# Altium schematic symbol library SMPSProject.SchLib: 155 symbols (part 2 of 2)
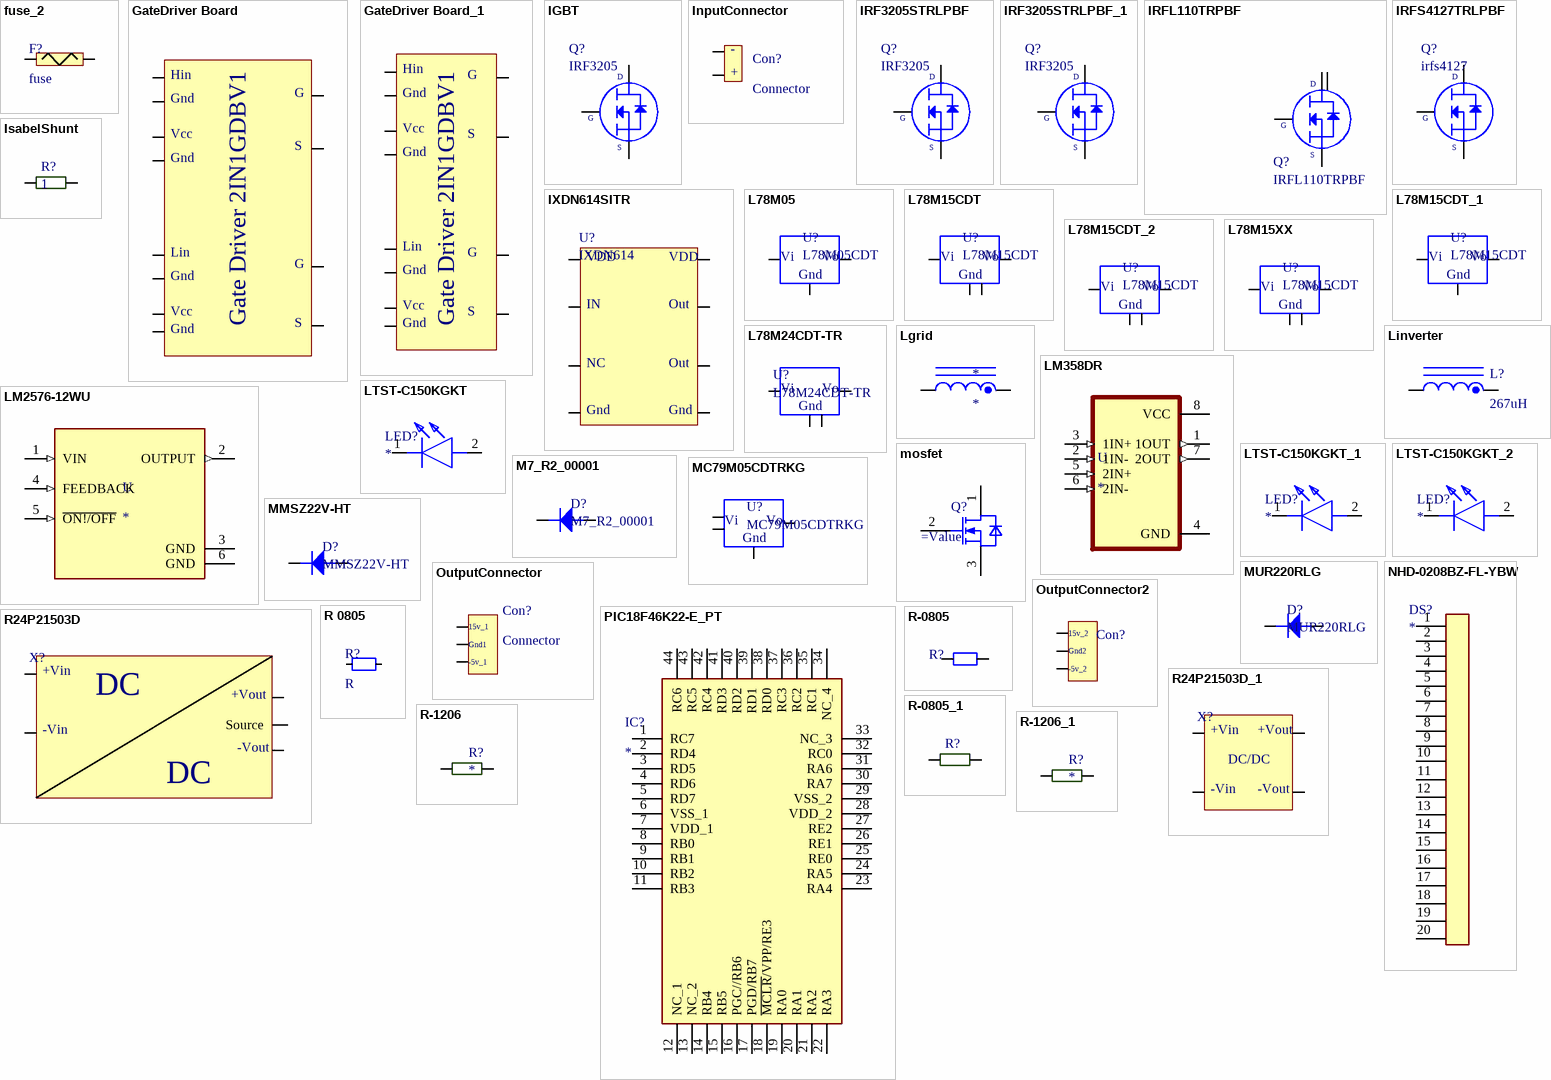
[diagram p4: symbols fuse_2 to R-1206_1]

## LM2576-12WU
designator U
Buck Switching Regulator IC Positive Fixed 12V 1 Output 3A TO-263-6, DÂ²Pak _5 Leads + Tab_, TO-263BA; MP: LM2576-12WU; MF: Microchip; Package: TO-263-5 Microchip; Value: *; SnapEDA_Link: https://www.snapeda.com/parts/LM2576-12WU/Microchip/view-part/2873733/?ref=snap; Price: None; Availability: Unavailable
footprint TO17P1435X465-6N
pins: 1 VIN (in), 2 OUTPUT (out), 3 GND (power), 4 FEEDBACK (in), 5 ~{ON!/OFF} (in), 6 GND (power)

## LTST-C150KGKT
designator LED?
LED; Manufacturer_Name: Lite-On; Manufacturer_Part_Number: LTST-C150KGKT; Datasheet Link: http://optoelectronics.liteon.com/upload/download/ds22-2000-072/ltst-c150kgkt.pdf; Height: 1.2mm; Mouser Part Number: 859-LTST-C150KGKT; Mouser Price/Stock: https://www.mouser.com/Search/Refine.aspx?Keyword=859-LTST-C150KGKT; RS Part Number: 6920871; RS Price/Stock: https://uk.rs-online.com/web/p/products/6920871
footprint L-1206
pins: 1 K, 2 A

## LTST-C150KGKT_1
designator LED?
LED; Manufacturer_Name: Lite-On; Manufacturer_Part_Number: LTST-C150KGKT; Datasheet Link: http://optoelectronics.liteon.com/upload/download/ds22-2000-072/ltst-c150kgkt.pdf; Height: 1.2mm; Mouser Part Number: 859-LTST-C150KGKT; Mouser Price/Stock: https://www.mouser.com/Search/Refine.aspx?Keyword=859-LTST-C150KGKT; RS Part Number: 6920871; RS Price/Stock: https://uk.rs-online.com/web/p/products/6920871
footprint led
pins: 1 K, 2 A

## LTST-C150KGKT_2
designator LED?
LED; Manufacturer_Name: Lite-On; Manufacturer_Part_Number: LTST-C150KGKT; Datasheet Link: http://optoelectronics.liteon.com/upload/download/ds22-2000-072/ltst-c150kgkt.pdf; Height: 1.2mm; Mouser Part Number: 859-LTST-C150KGKT; Mouser Price/Stock: https://www.mouser.com/Search/Refine.aspx?Keyword=859-LTST-C150KGKT; RS Part Number: 6920871; RS Price/Stock: https://uk.rs-online.com/web/p/products/6920871
footprint L-1206
footprint L-1206
pins: 1 K, 2 A

## M7_R2_00001
designator D?
ComponentLink1Description: Link; ComponentLink1URL: https://ozdisan.com/power-semiconductors/diodes-diode-modules-and-rectifiers/general-purpose-diodes/M7R200001
footprint DO-214AC
pins: a, k

## MC79M05CDTRKG
designator U?
ON SEMICONDUCTOR - MC79M05CDTRKG - NEGATIVE VOLTAGE REGULATOR, -5V, DPAK-3; Max Input Voltage: -35V; Min Input Voltage: -7V; Max Output Current: 500mA; Number of Outputs: 1; Dropout Voltage: 1.1V; Accuracy: 4%; Max Output Voltage: -5.2V; Power Supply Rejection Ratio (PSRR): 66dB; Output Type: Fixed; Supplier 1: Digi-Key; Manufacturer: ON Semiconductor; Manufacturer Part Number: MC79M05CDTRKG; RoHS: Yes; Stock 1: 5000; Pricing 1: 2500 = 0,18538, 5000 = 0,17342, 12500 = 0,16146, 25000 = 0,15309, 62500 = 0,14950 (USD); Mount: Surface Mount; Case/Package: DPAK; Number of Pins: 3; Contact Plating: Matte,Tin; Min Operating Temperature: 0°C; Max Operating Temperature: 125°C; Packaging: Tape and Reel; Output Voltage: -5V; Output Current: 500mA; Nominal Output Voltage: -5V; Package Quantity: 1; Number of Regulators: 1; Polarity: Negative; Min Output Voltage: -5V; Output Voltage Accuracy: 4%; Length: 6.73mm; Height: 2.38mm; Width: 6.22mm; Radiation Hardening: No; REACH SVHC: No SVHC; Lead Free: Lead Free; Halogen Free: Halogen Free; ComponentLink1URL: http://www.farnell.com/datasheets/2236912.pdf?src-supplier=Newark; ComponentLink1Description: http://www.farnell.com/datasheets/2236912.pdf?src-supplier=Newark; ComponentLink2URL: http://www.onsemi.com/pub/Collateral/MC79M00-D.PDF?src-supplier=Digi-Key; ComponentLink2Description: http://www.onsemi.com/pub/Collateral/MC79M00-D.PDF?src-supplier=Digi-Key; ComponentLink3URL: http://www.farnell.com/datasheets/1747960.pdf?src-supplier=Element14; ComponentLink3Description: http://www.farnell.com/datasheets/1747960.pdf?src-supplier=Element14; ComponentLink4URL: http://www.onsemi.com/pub/Collateral/MC79M00-D.PDF?src-supplier=Avnet+Europe; ComponentLink4Description: http://www.onsemi.com/pub/Collateral/MC79M00-D.PDF?src-supplier=Avnet+Europe; Supplier Part Number 1: MC79M05CDTRKGOSTR-ND
footprint sot89
pins: 1, 2, 2, 3
text: Vi; Vo; Gnd

## MMSZ22V-HT
designator D?
ComponentLink1Description: Link; ComponentLink1URL: https://ozdisan.com/power-semiconductors/diodes-diode-modules-and-rectifiers/zener-diodes/MMSZ22V-HT
footprint SOD123
footprint SOD123
pins: a, k

## mosfet
designator Q?
Insulated-Gate Field-Effect Transistor (IGFET), N-Channel, Enhancement, Body Diode, Pin 1 Drain, 2 Gate, 3 Source, 3 Pins; Symbol Type: Insulated-Gate Field-Effect Transistor (IGFET), N-Channel, Enhancement, Body Diode, Pin 1 Drain, 2 Gate, 3 Source, 3 Pins
pins: 1 DRAIN, 2 GATE, 3 SOURCE

## MUR220RLG
designator D?
DIODE GEN PURP 200V 2A AXIAL; Manufacturer: ON Semiconductor; Peak Reverse Current: 2uA; Max Surge Current: 35A; Recovery Time: 35ns; Forward Voltage: 950mV; Element Configuration: Single; Polarity: Standard; Supplier 1: Digi-Key; Manufacturer Part Number: MUR220RLG; RoHS: Yes; Stock 1: 4950; Pricing 1: 1 = 0,37000, 10 = 0,30200, 100 = 0,20590, 500 = 0,15446, 1000 = 0,11584 (USD); Case/Package: Axial; Number of Pins: 2; Contact Plating: Matte,Tin; Min Operating Temperature: -65°C; Max Operating Temperature: 175°C; Package Quantity: 5000; Packaging: Tape and Reel; Average Rectified Current: 2A; Reverse Recovery Time: 35ns; Max Repetitive Reverse Voltage (Vrrm): 200V; Peak Non-Repetitive Surge Current: 35A; Forward Current: 2A; Max Forward Surge Current (Ifsm): 35A; Voltage Rating (DC): 200V; Current Rating: 2A; Output Current: 2A; Max Reverse Voltage (DC): 200V; Reverse Voltage: 200V; Radiation Hardening: No; REACH SVHC: No SVHC; Lead Free: Lead Free; Halogen Free: Halogen Free; ComponentLink1URL: http://www.onsemi.com/pub/Collateral/MUR220-D.PDF?src-supplier=Avnet; ComponentLink1Description: http://www.onsemi.com/pub/Collateral/MUR220-D.PDF?src-supplier=Avnet; ComponentLink2URL: http://www.onsemi.com/pub/Collateral/MUR220-D.PDF?src-supplier=Digi-Key; ComponentLink2Description: http://www.onsemi.com/pub/Collateral/MUR220-D.PDF?src-supplier=Digi-Key; ComponentLink3URL: http://www.onsemi.com/pub/Collateral/MUR220-D.PDF?src-supplier=Avnet+Europe; ComponentLink3Description: http://www.onsemi.com/pub/Collateral/MUR220-D.PDF?src-supplier=Avnet+Europe; Supplier Part Number 1: MUR220RLGOSCT-ND
footprint DO41 1N4001 MUR220
pins: A, K

## NHD-0208BZ-FL-YBW
designator DS?
Display; Manufacturer_Name: Newhaven Display; Manufacturer_Part_Number: NHD-0208BZ-FL-YBW; Allied_Number: 70518052; Datasheet Link: https://www.newhavendisplay.com/specs/NHD-0208BZ-FL-YBW.pdf; Height: 13.5mm; Mouser Part Number: 763-0208BZ-FL-YBW; Mouser Price/Stock: https://www.mouser.com/Search/Refine.aspx?Keyword=763-0208BZ-FL-YBW; Allied Price/Stock: https://www.alliedelec.com/newhavendisplayinternational-nhd-0208bz-fl-ybw/70518052/
footprint idc20
pins: 1 VSS, 2 VDD, 3 V0, 4 RS, 5 R/W, 6 E, 7 DB0, 8 DB1, 9 DB2, 10 DB3, 11 DB4, 12 DB5, 13 DB6, 14 DB7, 15, 16, 17, 18, 19, 20

## OutputConnector
designator Con?, comment Connector
footprint Output Connector
footprint Output Connector
pins: 1, 2, 3
text: 15v_1; Gnd1; -5v_1

## OutputConnector2
designator Con?  (value not drawn)
footprint Output Connector
pins: 1, 2, 3
text: 15v_2; Gnd2; -5v_2

## PIC18F46K22-E_PT
designator IC?
Integrated Circuit; Manufacturer_Name: Microchip; Manufacturer_Part_Number: PIC18F46K22-E/PT; Datasheet Link: https://componentsearchengine.com/Datasheets/1/PIC18F46K22-E_PT.pdf; Height: 1.2mm; Mouser Part Number: 579-PIC18F46K22EPT; Mouser Price/Stock: https://www.mouser.co.uk/ProductDetail/Microchip-Technology/PIC18F46K22-E-PT/?qs=RXaOwepKlZ1VZ48%252B%252BLjZBQ%3D%3D; Arrow Part Number: PIC18F46K22-E/PT; Arrow Price/Stock: https://www.arrow.com/en/products/pic18f46k22-ept/microchip-technology
footprint QFP80P1200X1200X120-44N
pins: 1 RC7, 2 RD4, 3 RD5, 4 RD6, 5 RD7, 6 VSS_1, 7 VDD_1, 8 RB0, 9 RB1, 10 RB2, 11 RB3, 12 NC_1, 13 NC_2, 14 RB4, 15 RB5, 16 PGC//RB6, 17 PGD/RB7, 18 ~{MCLR}/VPP/RE3, 19 RA0, 20 RA1, 21 RA2, 22 RA3, 23 RA4, 24 RA5, 25 RE0, 26 RE1, 27 RE2, 28 VDD_2, 29 VSS_2, 30 RA7, 31 RA6, 32 RC0, 33 NC_3, 34 NC_4, 35 RC1, 36 RC2, 37 RC3, 38 RD0, 39 RD1, 40 RD2, 41 RD3, 42 RC4, 43 RC5, 44 RC6

## R24P21503D
designator X?
Manufacturer: Recom; Manufacturer Part Number: R24P21503D; Max Output Voltage: 15V; Supplier 1: Digi-Key; RoHS: No; Stock 1: 378; Pricing 1: 1 = 8.78000, 5 = 8.71200, 10 = 8.64500, 25 = 8.51200, 50 = 8.24600, 100 = 7.44800, 250 = 7.31500, 500 = 7.18200 (USD); Weight: 4.3g; Length: 19.5mm; Height: 12.5mm; Width: 9.8mm; Supplier Part Number 1: 945-3071-5-ND
footprint SIP7 - duplicate
pins: 1, 2, 5, 6 Source, 7
text: +Vin; DC; +Vout; -Vin; -Vout

## R24P21503D_1
designator X?
Manufacturer: Recom; Manufacturer Part Number: R24P21503D; Max Output Voltage: 15V; Supplier 1: Digi-Key; RoHS: No; Stock 1: 378; Pricing 1: 1 = 8.78000, 5 = 8.71200, 10 = 8.64500, 25 = 8.51200, 50 = 8.24600, 100 = 7.44800, 250 = 7.31500, 500 = 7.18200 (USD); Weight: 4.3g; Length: 19.5mm; Height: 12.5mm; Width: 9.8mm; Supplier Part Number 1: 945-3071-5-ND
footprint SIP7
pins: 1, 2, 5, 7
text: +Vin; +Vout; DC/DC; -Vin; -Vout

## R 0805
designator R?, comment R
footprint R-0805R (resistor 0805 reflow soldering)
pins: 1, 2

## R-0805
designator R?  (value not drawn)
footprint R-0805W (resistor 0805 wave soldering)
pins: 1, 2

## R-0805_1
designator R?
footprint R-0805
footprint R-0805
pins: 1, 2

## R-1206
designator R?
Res1206
footprint R-1206
pins: 1, 2

## R-1206_1
designator R?
Res1206
footprint R-1206
pins: 1, 2

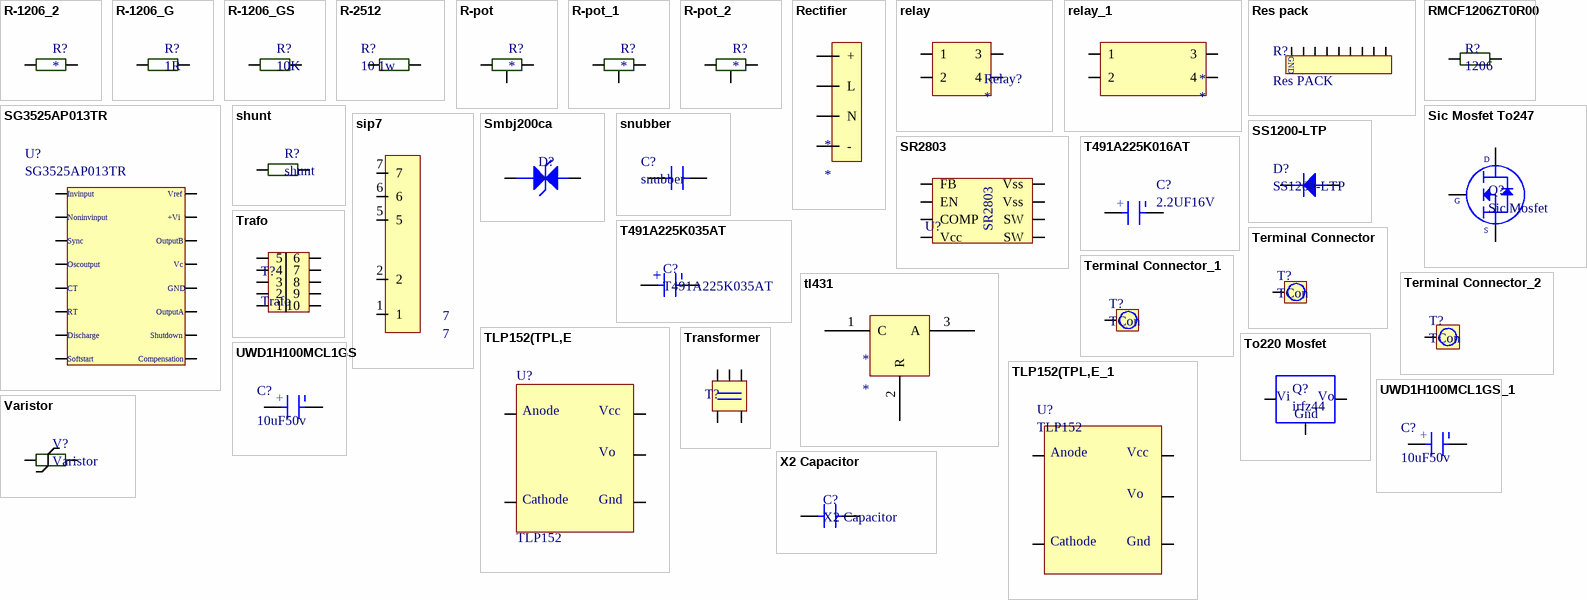
[diagram p3: symbols R-1206_2 to X2 Capacitor]

## R-1206_2
designator R?
Res1206
footprint R-1206
pins: 1, 2

## R-1206_G
designator R?, comment 1R
1206S4F100KT5E; ComponentLink1Description: https://www.ozdisan.com/pasif-komponentler/direncler/smt-smd-direncler/1206S4F100KT5E; ComponentLink1URL: https://www.ozdisan.com/pasif-komponentler/direncler/smt-smd-direncler/1206S4F100KT5E
footprint R-1206
pins: 1, 2

## R-1206_GS
designator R?, comment 10K
1206S4F1002T5E; ComponentLink1Description: link; ComponentLink1URL: https://www.ozdisan.com/pasif-komponentler/direncler/smt-smd-direncler/1206S4F1002T5E
footprint R-1206
pins: 1, 2

## R-2512
designator R?, comment 10 1w
footprint R-2512
footprint R-2512
pins: 1, 2

## R-pot
designator R?
Res1206
footprint pot
pins: 1, 2, 3

## R-pot_1
designator R?
Res1206
footprint pot
pins: 1, 2, 3

## R-pot_2
designator R?
Res1206
footprint pot
pins: 1, 2, 3

## Rectifier
designator *
footprint Rectifier
pins: 1 +, 2 L, 3 N, 4 -

## relay
designator Relay?
footprint Relay
pins: 1, 2, 3, 4

## relay_1
designator *
footprint Relay
pins: 1, 2, 3, 4

## Res pack
designator R?, comment Res PACK
footprint resistor Pack
pins: 1 GND, 2, 3, 4, 5, 6, 7, 8, 9

## RMCF1206ZT0R00
designator R?, comment 1206
RES 0 OHM JUMPER 1/4W 1206; Manufacturer: Stackpole Electronics; Manufacturer Part Number: RMCF1206ZT0R00; Resistance: 0mR; Power Rating: 250mW; Current Rating: 2A; Working Voltage: 200V; Supplier 1: Digi-Key; RoHS: Yes; Stock 1: 1700000; Pricing 1: 5000 = 0,00355, 10000 = 0,00309, 25000 = 0,00271, 50000 = 0,00249, 125000 = 0,00244 (USD); Mount: Surface Mount; Case/Package: 1206; Case Code (Metric): 3216; Case Code (Imperial): 1206; Contact Plating: Matte,Tin; Min Operating Temperature: -55°C; Max Operating Temperature: 155°C; Packaging: Tape and Reel; Composition: Thick Film; Number of Terminations: 2; Military Standard: Not; Max Power Dissipation: 250mW; Features: Automotive AEC-Q200; Length: 0.126inch; Height: 0.028inch; Width: 0.063inch; Depth: 1.6mm; Radiation Hardening: No; Lead Free: Lead Free; Supplier Part Number 1: RMCF1206ZT0R00TR-ND
footprint RES1206 (Chip Resistor, 2-Leads, Body 3,15x1,58mm, IPC Medium Density)
pins: 1, 2

## SG3525AP013TR
designator U?
IC REG CTRLR BCK/PSH-PULL 16SOIC; Manufacturer: STMicroelectronics; Max Supply Voltage: 35V; Output Current: 400A; Rise Time: 100ns; Number of Outputs: 2; Switching Frequency: 400kHz; Output Voltage: 5.2V; Max Frequency: 500kHz; Duty Cycle: 49%; Fall Time: 50ns; Operating Supply Current: 14mA; Max Supply Current: 20mA; Supplier 1: Digi-Key; RoHS: Yes; Stock 1: 5712; Pricing 1: 1 = 1,58000, 10 = 1,41600, 100 = 1,10400, 500 = 0,91196, 1000 = 0,71997 (USD); Mount: Surface Mount; Number of Pins: 16; Weight: 0.007079oz; Min Operating Temperature: 0°C; Max Operating Temperature: 70°C; Packaging: Tape and Reel; Package Quantity: 1; Max Duty Cycle: 49%; Radiation Hardening: No; Lead Free: Lead Free; ComponentLink1URL: http://www.st.com/content/ccc/resource/technical/document/datasheet/c0/12/98/4a/3b/1a/4b/8b/CD00000958.pdf/files/CD00000958.pdf/jcr:content/translations/en.CD00000958.pdf?src-supplier=Digi-Key; ComponentLink1Description: http://www.st.com/content/ccc/resource/technical/document/datasheet/c0/12/98/4a/3b/1a/4b/8b/CD00000958.pdf/files/CD00000958.pdf/jcr:content/translations/en.CD00000958.pdf?src-supplier=Digi-Key; ComponentLink2URL: https://www.verical.com/server-webapp/html/getDatasheet?partID=376579&src-supplier=Verical; ComponentLink2Description: https://www.verical.com/server-webapp/html/getDatasheet?partID=376579&src-supplier=Verical; ComponentLink3URL: http://www.produktinfo.conrad.com/datenblaetter/1100000-1199999/001185611-da-01-en-IC_REG_CTRLR_P_SG3525AP013TR_SOIC_16_STM.pdf?src-supplier=Conrad; ComponentLink3Description: http://www.produktinfo.conrad.com/datenblaetter/1100000-1199999/001185611-da-01-en-IC_REG_CTRLR_P_SG3525AP013TR_SOIC_16_STM.pdf?src-supplier=Conrad; Case/Package: SOIC; Supplier Part Number 1: 497-6479-1-ND; Manufacturer Part Number: SG3525AP013TR
footprint SOIC16N
pins: 1, 2, 3, 4, 5, 6, 7, 8, 9, 10, 11, 12, 13, 14, 15, 16
text: Invinput; Vref; Noninvinput; +Vi; Sync; OutputB; Oscoutput; Vc; CT; GND; RT; OutputA; Discharge; Shutdown; Softstart; Compensation

## shunt
designator R?
Res1206
footprint shunt
pins: 1, 2

## Sic Mosfet To247
designator Q?, comment Sic Mosfet
SiC Mosfet To247
footprint IFX-PG-TO247-3-41 (TO247-Diode; 3 pin, 5.44 mm pitch, 15.90 mm L X 5.00 mm W X 26.00 mm H body)
pins: 1, 2, 3
text: D; G; S

## sip7
designator 7, comment 7
footprint SIP7
pins: 1, 2, 5, 6, 7

## Smbj200ca
designator D?
footprint DO214AA
pins: 1, 2

## snubber
designator C?
Manufacturer: Nichicon; Manufacturer Part Number: LKS1J472MESZ; Voltage Rating: 63V; Tolerance: 20%; Ripple Current: 3A; Life (Hours): 1000Hour; Supplier 1: Mouser; RoHS: Yes; Mount: Through Hole; Case/Package: Radial; Min Operating Temperature: -40°C; Max Operating Temperature: 85°C; Package Quantity: 250; Packaging: Bulk; Voltage Rating (DC): 63V; Termination: Snap in; Diameter: 22mm; Length: 45mm; Lead Pitch: 0.394inch; Height - Seated (Max): 1.772inch; Supplier Part Number 1: 647-LKS1J472MESZ
footprint snubber
pins: 1, 2

## SR2803
designator U?  (value not drawn)
footprint sr2803
pins: 1 FB, 2 EN, 3 COMP, 4 Vcc, 5 SW, 6 SW, 7 Vss, 8 Vss

## SS1200-LTP
designator D?
DIODE SCHOTTKY 200V 1A DO214AC; Manufacturer: MCC; Max Surge Current: 30A; Forward Voltage: 920mV; Peak Reverse Current: 1mA; Element Configuration: Single; Supplier 1: Digi-Key; Manufacturer Part Number: SS1200-LTP; RoHS: Yes; Stock 1: 10000; Pricing 1: 5000 = 0,09300, 10000 = 0,08700, 25000 = 0,08400 (USD); Mount: Surface Mount; Min Operating Temperature: -55°C; Max Operating Temperature: 150°C; Packaging: Tape and Reel; Package Quantity: 1; Max Reverse Leakage Current: 1mA; Max Repetitive Reverse Voltage (Vrrm): 200V; Forward Current: 1A; Max Forward Surge Current (Ifsm): 30A; Average Rectified Current: 1A; Max Reverse Voltage (DC): 200V; Lead Free: Lead Free; ComponentLink1URL: https://datasheet.ciiva.com/913/ss1150-l-ss1200-ldo-214ac-913194.pdf?src-supplier=Digi-Key; ComponentLink1Description: https://datasheet.ciiva.com/913/ss1150-l-ss1200-ldo-214ac-913194.pdf?src-supplier=Digi-Key; ComponentLink2URL: https://datasheet.ciiva.com/15404/ss1150-l-ss1200-ldo-214ac-272760-15404740.pdf?src-supplier=Mouser; ComponentLink2Description: https://datasheet.ciiva.com/15404/ss1150-l-ss1200-ldo-214ac-272760-15404740.pdf?src-supplier=Mouser; ComponentLink3URL: https://datasheet.ciiva.com/913/ss1150-l-ss1200-ldo-214ac-913195.pdf?src-supplier=Digi-Key; ComponentLink3Description: https://datasheet.ciiva.com/913/ss1150-l-ss1200-ldo-214ac-913195.pdf?src-supplier=Digi-Key; ComponentLink4URL: https://datasheet.ciiva.com/913/ss1150-l-ss1200-ldo-214ac-913196.pdf?src-supplier=Digi-Key; ComponentLink4Description: https://datasheet.ciiva.com/913/ss1150-l-ss1200-ldo-214ac-913196.pdf?src-supplier=Digi-Key; ComponentLink5URL: https://datasheet.ciiva.com/17447/ss1150-l-ss1200-ldo-214ac-17447695.pdf?src-supplier=Future+Electronics; ComponentLink5Description: https://datasheet.ciiva.com/17447/ss1150-l-ss1200-ldo-214ac-17447695.pdf?src-supplier=Future+Electronics; Supplier Part Number 1: SS1200-LTPMSTR-ND
footprint DO-214AC
pins: a, k

## T491A225K016AT
designator C?, comment 2.2UF16V
CAP TANT 2.2UF 10% 16V 1206; Manufacturer: KEMET; Manufacturer Part Number: T491A225K016AT; Dielectric Material: Tantalum; ESR (Equivalent Series Resistance): 6R; Leakage Current: 500nA; Polarity: Polar; Dissipation Factor: 6%; Life (Hours): 2000Hour; Supplier 1: Digi-Key; RoHS: Yes; Stock 1: 84000; Pricing 1: 2000 = 0,09450, 4000 = 0,08925, 10000 = 0,08400, 14000 = 0,08138, 50000 = 0,07350, 100000 = 0,07140 (USD); Mount: PCB,Surface Mount; Case/Package: 1206; Number of Pins: 2; Case Code (Metric): 3216; Case Code (Imperial): 1206; Min Operating Temperature: -55°C; Max Operating Temperature: 125°C; Capacitance: 2.2uF; Tolerance: 10%; Voltage Rating: 16V; Packaging: Tape and Reel; Package Quantity: 1; Voltage Rating (DC): 16V; Termination: SMD/SMT; Voltage: 16V; Features: General Purpose; Length: 3.2mm; Height: 1.6mm; Width: 1.6mm; Height - Seated (Max): 0.071inch; Depth: 1.6mm; Radiation Hardening: No; REACH SVHC: No SVHC; Lead Free: Lead Free; ComponentLink1URL: http://www.farnell.com/datasheets/1854511.pdf?src-supplier=Element14; ComponentLink1Description: http://www.farnell.com/datasheets/1854511.pdf?src-supplier=Element14; ComponentLink2URL: http://www.jameco.com/Jameco/Products/ProdDS/1573329.pdf?src-supplier=Jameco; ComponentLink2Description: http://www.jameco.com/Jameco/Products/ProdDS/1573329.pdf?src-supplier=Jameco; ComponentLink3URL: https://api.kemet.com/component-edge/download/datasheet/T491A225K016AT.pdf?src-supplier=Digi-Key; ComponentLink3Description: https://api.kemet.com/component-edge/download/datasheet/T491A225K016AT.pdf?src-supplier=Digi-Key; ComponentLink4URL: http://www.farnell.com/datasheets/1854511.pdf?src-supplier=Farnell; ComponentLink4Description: http://www.farnell.com/datasheets/1854511.pdf?src-supplier=Farnell; ComponentLink5URL: http://uk.rs-online.com/webdocs/1515/0900766b81515567.pdf?src-supplier=RSComponents; ComponentLink5Description: http://uk.rs-online.com/webdocs/1515/0900766b81515567.pdf?src-supplier=RSComponents; ComponentLink6URL: https://www.verical.com/server-webapp/html/getDatasheet?partID=120946&src-supplier=Verical; ComponentLink6Description: https://www.verical.com/server-webapp/html/getDatasheet?partID=120946&src-supplier=Verical; ComponentLink7URL: https://search.kemet.com/component-edge/download/datasheet/T491A225K016AT.pdf?src-supplier=Digi-Key; ComponentLink7Description: https://search.kemet.com/component-edge/download/datasheet/T491A225K016AT.pdf?src-supplier=Digi-Key; ComponentLink8URL: http://www.farnell.com/datasheets/1446014.pdf?src-supplier=Element14; ComponentLink8Description: http://www.farnell.com/datasheets/1446014.pdf?src-supplier=Element14; ComponentLink9URL: http://www.mouser.com/ds/2/212/KEM_T2005_T491-1093550.pdf?src-supplier=Mouser; ComponentLink9Description: http://www.mouser.com/ds/2/212/KEM_T2005_T491-1093550.pdf?src-supplier=Mouser; Supplier Part Number 1: 399-3691-2-ND
footprint Tantal1206
pins: 1, 2
text: +

## T491A225K035AT
designator C?
CAP TANT 2.2UF 35V 10% 1206; Manufacturer: KEMET; ESR (Equivalent Series Resistance): 4.5R; Polarity: Polar; Life (Hours): 2000Hour; Dissipation Factor: 6%; Supplier 1: Digi-Key; Manufacturer Part Number: T491A225K035AT; RoHS: Yes; Stock 1: 1476; Pricing 1: 1 = 0,62000, 10 = 0,44100, 100 = 0,29030, 500 = 0,21506, 1000 = 0,18280 (USD); Mount: Surface Mount; Case/Package: Molded; Case Code (Metric): 3216; Case Code (Imperial): 1206; Min Operating Temperature: -55°C; Max Operating Temperature: 125°C; Capacitance: 2.2uF; Tolerance: 10%; Package Quantity: 2000; Packaging: Tape and Reel; Voltage Rating: 35V; Voltage Rating (DC): 35V; Features: General Purpose; Length: 3.2mm; Height: 1.6mm; Width: 0.063inch; Height - Seated (Max): 0.071inch; Depth: 1.6mm; Radiation Hardening: No; REACH SVHC: No SVHC; Lead Free: Lead Free; ComponentLink1URL: http://www.kemet.com/Lists/ProductCatalog/Attachments/254/KEM_T2005_T491.pdf?src-supplier=Digi-Key; ComponentLink1Description: http://www.kemet.com/Lists/ProductCatalog/Attachments/254/KEM_T2005_T491.pdf?src-supplier=Digi-Key; Supplier Part Number 1: 399-10447-6-ND
footprint Tantal1206
pins: 1, 2
text: +

## Terminal Connector
designator T?, comment TCon
ComponentLink1Description: https://www.ozdisan.com/konnektor-baglanti-elemanlari/terminal-konnektorler/vida-tipi-konnektorler/K36-00AH; ComponentLink1URL: https://www.ozdisan.com/konnektor-baglanti-elemanlari/terminal-konnektorler/vida-tipi-konnektorler/K36-00AH
footprint tCon
footprint tCon
pins: 1

## Terminal Connector_1
designator T?, comment TCon
ComponentLink1Description: https://www.ozdisan.com/konnektor-baglanti-elemanlari/terminal-konnektorler/vida-tipi-konnektorler/K36-00AH; ComponentLink1URL: https://www.ozdisan.com/konnektor-baglanti-elemanlari/terminal-konnektorler/vida-tipi-konnektorler/K36-00AH
footprint tCon
pins: 1

## Terminal Connector_2
designator T?, comment TCon
ComponentLink1Description: https://www.ozdisan.com/konnektor-baglanti-elemanlari/terminal-konnektorler/vida-tipi-konnektorler/K36-00AH; ComponentLink1URL: https://www.ozdisan.com/konnektor-baglanti-elemanlari/terminal-konnektorler/vida-tipi-konnektorler/K36-00AH
footprint tCon
footprint tCon
pins: 1

## tl431
designator *
footprint SOT23-3
pins: 1 C, 2 R, 3 A

## TLP152(TPL,E
designator U?, comment TLP152
IC-152 PHOTOCOUPLER GATE DRIVE SO6 TOSHIBA; Özdisan Part Number: TLP152(TPL,E; ComponentLink1URL: https://datasheet.ciiva.com/41848/tlp152-datasheet-en-20120914-41848928.pdf?src-supplier=Digi-Key; ComponentLink1Description: https://datasheet.ciiva.com/41848/tlp152-datasheet-en-20120914-41848928.pdf?src-supplier=Digi-Key; Price: 0,80155; Link: https://www.ozdisan.com/optolar-sensorler/optolar/gate-surucu-optokuplorleri/TLP152TPLE; Manufacturer: TOSHIBA
footprint TLP152 (SOTFL, 5-Leads, Body 3.75x7.20mm, Pitch 1.27mm, IPC Medium Density)
pins: 1, 2, 3, 4, 5
text: Anode; Vcc; Vo; Cathode; Gnd

## TLP152(TPL,E_1
designator U?, comment TLP152
OPTOISO 3.75KV GATE DRIVER 6SO-5; Manufacturer: Toshiba; Manufacturer Part Number: TLP152(TPL,E; Number of Channels: 1; Propagation Delay: 165ns; Max Power Dissipation: 260mW; Direction: Unidirectional; Turn-On Delay Time: 190ns; Fall Time: 22ns; Forward Voltage: 1.57V; Output Current: 2.5A; Forward Current: 10mA; Rise Time: 18ns; High Level Output Current: 2A; Pulse Width Distortion (PWD): 50ns; Supplier 1: Mouser; RoHS: Yes; Stock 1: 22321; Pricing 1: 1 = 1.55000, 10 = 0.96800, 50 = 0.96800, 100 = 0.87200, 1000 = 0.54300, 10000 = 0.44000 (USD); Mount: Surface Mount; Case/Package: SO; Number of Pins: 5; Min Operating Temperature: -40°C; Max Operating Temperature: 100°C; Packaging: Tape and Reel; Package Quantity: 3000; Low Level Output Current: 2A; Max Output Current: 2.5A; ComponentLink1URL: https://datasheet.ciiva.com/41848/tlp152-datasheet-en-20120914-41848928.pdf?src-supplier=Digi-Key; ComponentLink1Description: https://datasheet.ciiva.com/41848/tlp152-datasheet-en-20120914-41848928.pdf?src-supplier=Digi-Key; Supplier Part Number 1: 757-TLP152TPLE
footprint TLP152 (SOTFL, 5-Leads, Body 3.75x7.20mm, Pitch 1.27mm, IPC Medium Density)
pins: 1, 2, 3, 4, 5
text: Anode; Vcc; Vo; Cathode; Gnd

## To220 Mosfet
designator Q?, comment irfz44
footprint TO254P483X1016X1994-3P
footprint TO-252
pins: 1, 2, 3
text: Vi; Vo; Gnd

## Trafo
designator T?
footprint trafo
pins: 1, 2, 3, 4, 5, 6, 7, 8, 9, 10

## Transformer
designator T?  (value not drawn)
footprint Transformer
pins: 1, 2, 3, 4, 5

## UWD1H100MCL1GS
designator C?, comment 10uF50v
Aluminum Electrolytic Capacitors - SMD 50volts 10uF 6.3x5.8; Manufacturer: Nichicon; Manufacturer Part Number: UWD1H100MCL1GS; Material: Aluminium; Voltage Rating: 50V; Tolerance: 20%; Ripple Current: 165mA; Impedance: 880mR; Leakage Current: 3uA; Life (Hours): 2000Hour; Dissipation Factor: 0.12%; Supplier 1: Digi-Key; RoHS: Yes; Stock 1: 8000; Pricing 1: 1000 = 0.23520, 2000 = 0.22050, 5000 = 0.20580, 10000 = 0.19845, 25000 = 0.19110, 50000 = 0.19040 (USD); Mount: Surface Mount; Case/Package: SMD/SMT; Min Operating Temperature: -55°C; Max Operating Temperature: 105°C; Package Quantity: 1; Capacitance: 10uF; Packaging: Tape and Reel; Voltage Rating (DC): 50V; Termination: SMD/SMT; Voltage: 50V; Features: General Purpose; Diameter: 6.3mm; Length: 5.8mm; Height: 5.8mm; Height - Seated (Max): 0.24inch; Lead Pitch: 2.2mm; Radiation Hardening: No; Lead Free: Lead Free; ComponentLink1URL: https://datasheet.ciiva.com/11783/0900766b8080ae55-11783196.pdf?src-supplier=RSComponents; ComponentLink1Description: https://datasheet.ciiva.com/11783/0900766b8080ae55-11783196.pdf?src-supplier=RSComponents; ComponentLink2URL: https://datasheet.ciiva.com/17526/e-wd-17526757.pdf?src-supplier=Avnet+Europe; ComponentLink2Description: https://datasheet.ciiva.com/17526/e-wd-17526757.pdf?src-supplier=Avnet+Europe; ComponentLink3URL: https://datasheet.ciiva.com/5362/e-wd-5362054.pdf?src-supplier=Mouser; ComponentLink3Description: https://datasheet.ciiva.com/5362/e-wd-5362054.pdf?src-supplier=Mouser; ComponentLink4URL: https://datasheet.ciiva.com/11686/e-wd-11686678.pdf?src-supplier=Avnet; ComponentLink4Description: https://datasheet.ciiva.com/11686/e-wd-11686678.pdf?src-supplier=Avnet; ComponentLink5URL: https://datasheet.ciiva.com/6310/e-wd-6310126.pdf?src-supplier=Digi-Key; ComponentLink5Description: https://datasheet.ciiva.com/6310/e-wd-6310126.pdf?src-supplier=Digi-Key; ComponentLink6URL: https://datasheet.ciiva.com/6310/e-wd-6310127.pdf?src-supplier=Digi-Key; ComponentLink6Description: https://datasheet.ciiva.com/6310/e-wd-6310127.pdf?src-supplier=Digi-Key; Supplier Part Number 1: 493-6294-2-ND
footprint 4x5.3 cap
pins: 1, 2
text: +

## UWD1H100MCL1GS_1
designator C?, comment 10uF50v
Aluminum Electrolytic Capacitors - SMD 50volts 10uF 6.3x5.8; Manufacturer: Nichicon; Manufacturer Part Number: UWD1H100MCL1GS; Material: Aluminium; Voltage Rating: 50V; Tolerance: 20%; Ripple Current: 165mA; Impedance: 880mR; Leakage Current: 3uA; Life (Hours): 2000Hour; Dissipation Factor: 0.12%; Supplier 1: Digi-Key; RoHS: Yes; Stock 1: 8000; Pricing 1: 1000 = 0.23520, 2000 = 0.22050, 5000 = 0.20580, 10000 = 0.19845, 25000 = 0.19110, 50000 = 0.19040 (USD); Mount: Surface Mount; Case/Package: SMD/SMT; Min Operating Temperature: -55°C; Max Operating Temperature: 105°C; Package Quantity: 1; Capacitance: 10uF; Packaging: Tape and Reel; Voltage Rating (DC): 50V; Termination: SMD/SMT; Voltage: 50V; Features: General Purpose; Diameter: 6.3mm; Length: 5.8mm; Height: 5.8mm; Height - Seated (Max): 0.24inch; Lead Pitch: 2.2mm; Radiation Hardening: No; Lead Free: Lead Free; ComponentLink1URL: https://datasheet.ciiva.com/11783/0900766b8080ae55-11783196.pdf?src-supplier=RSComponents; ComponentLink1Description: https://datasheet.ciiva.com/11783/0900766b8080ae55-11783196.pdf?src-supplier=RSComponents; ComponentLink2URL: https://datasheet.ciiva.com/17526/e-wd-17526757.pdf?src-supplier=Avnet+Europe; ComponentLink2Description: https://datasheet.ciiva.com/17526/e-wd-17526757.pdf?src-supplier=Avnet+Europe; ComponentLink3URL: https://datasheet.ciiva.com/5362/e-wd-5362054.pdf?src-supplier=Mouser; ComponentLink3Description: https://datasheet.ciiva.com/5362/e-wd-5362054.pdf?src-supplier=Mouser; ComponentLink4URL: https://datasheet.ciiva.com/11686/e-wd-11686678.pdf?src-supplier=Avnet; ComponentLink4Description: https://datasheet.ciiva.com/11686/e-wd-11686678.pdf?src-supplier=Avnet; ComponentLink5URL: https://datasheet.ciiva.com/6310/e-wd-6310126.pdf?src-supplier=Digi-Key; ComponentLink5Description: https://datasheet.ciiva.com/6310/e-wd-6310126.pdf?src-supplier=Digi-Key; ComponentLink6URL: https://datasheet.ciiva.com/6310/e-wd-6310127.pdf?src-supplier=Digi-Key; ComponentLink6Description: https://datasheet.ciiva.com/6310/e-wd-6310127.pdf?src-supplier=Digi-Key; Supplier Part Number 1: 493-6294-2-ND
footprint CapSmdElc (Aluminum Electrolytic Capacitor, Body 6.70x6.70x6.30mm, IPC Low Density)
pins: 1, 2
text: +

## Varistor
designator V?
ComponentLink1Description: Link; ComponentLink1URL: https://ozdisan.com/power-semiconductors/circuit-protection-components/varistors/TVR10391KSY
footprint varistor
pins: 1, 2

## X2 Capacitor
designator C?
ComponentLink1Description: Link; ComponentLink1URL: https://ozdisan.com/passive-components/capacitors/film-capacitors/W42Q3104KK6SD1A0W1
footprint x2 capacitor
pins: 1, 2